# Altium schematic symbol library Linear Power Management Linear Converters.SchLib: 1 symbol
Pins are listed as number, name and electrical type; pins without a type are passive.

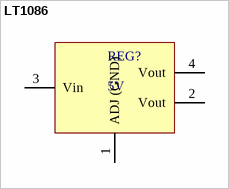
[diagram p0: symbol LT1086]

## LT1086
designator REG?, comment 5V
1.5A Low Dropout Positive  Regulators Adjustable and  Fixed 2.85V, 3.3V, 3.6V, 5V, 12V
footprint DDPak (D2-PAK, 4-Pads, Body 9.4x10.5mm (max), IPC Medium Density)
pins: 1 ADJ (GND), 2 Vout, 3 Vin, 4 Vout